# Altium schematic symbol library SCH - POWER - LINEAR VREG - TI TPS7B7702-Q1PWP.SchLib: 1 symbol
Pins are listed as number, name and electrical type; pins without a type are passive.

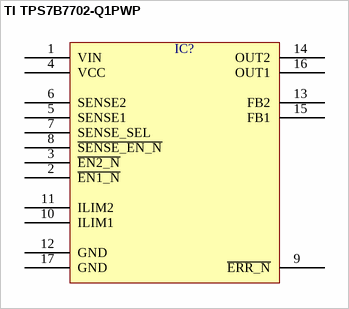
[diagram p0: symbol TI TPS7B7702-Q1PWP]

## TI TPS7B7702-Q1PWP
designator IC?  (value not drawn)
pins: 1 VIN, 2 ~{EN1_N}, 3 ~{EN2_N}, 4 VCC, 5 SENSE1, 6 SENSE2, 7 SENSE_SEL, 8 ~{SENSE_EN_N}, 9 ~{ERR_N}, 10 ILIM1, 11 ILIM2, 12 GND, 13 FB2, 14 OUT2, 15 FB1, 16 OUT1, 17 GND